# Altium schematic symbol library Resistor_0603.SchLib: 250 symbols (part 5 of 6)
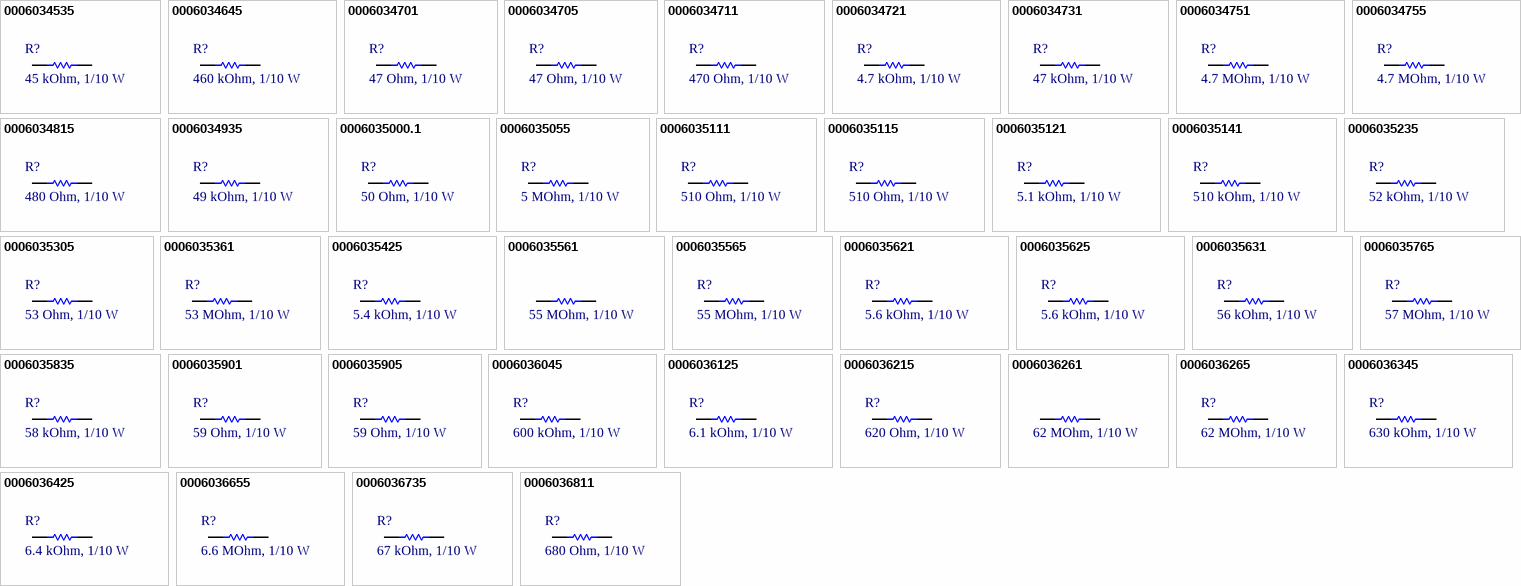
[diagram p10: symbols 0006034535 to 0006036811]

## 0006035765
designator R?, comment 57 MOhm, 1/10 W
RES, size 0603, 57 MOhm, 1/10 W, 5%; Manufacturer: OEM; Rated Power: 1/10 W; Resistance: 57 MOhm; Value: 57 MOhm; Tolerance: +/-5%; Supplier 1 URL: N/A; Supplier 3 URL: N/A; Supplier 2 URL: N/A; Packaging: Tape and Reel; Supplier 1: Mouser; Supplier 1 Part Number: N/A; Supplier 2: Digi-Key; Supplier 2 Part Number: N/A; Supplier 3: thegioiic; Supplier 3 Part Number: N/A; Manufacturer Part Number: OEM; ComponentLink1Description: Datasheet; ComponentLink1URL: N/A; Mount: SMD/SMT; Operating Temperature Max: + 85 C; Operating Temperature Min: - 40 C; Package / Case: 0603; LCSC Part #: N/A
footprint RES_0603 (Chip Resistor, 2-Leads, Body 1.55x0.85mm, IPC Medium Density)
simulation model R_Resistor_Default (Model Description)
signal-integrity model Resistor Model
pins: 1, 2

## 0006035835
designator R?, comment 58 kOhm, 1/10 W
RES, size 0603, 58 kOhm, 1/10 W, 5%; Manufacturer: OEM; Rated Power: 1/10 W; Resistance: 58 kOhm; Value: 58 kOhm; Tolerance: +/-5%; Supplier 1 URL: N/A; Supplier 3 URL: N/A; Supplier 2 URL: N/A; Packaging: Tape and Reel; Supplier 1: Mouser; Supplier 1 Part Number: N/A; Supplier 2: Digi-Key; Supplier 2 Part Number: N/A; Supplier 3: thegioiic; Supplier 3 Part Number: N/A; Manufacturer Part Number: OEM; ComponentLink1Description: Datasheet; ComponentLink1URL: N/A; Mount: SMD/SMT; Operating Temperature Max: + 85 C; Operating Temperature Min: - 40 C; Package / Case: 0603; LCSC Part #: N/A
footprint RES_0603 (Chip Resistor, 2-Leads, Body 1.55x0.85mm, IPC Medium Density)
simulation model R_Resistor_Default (Model Description)
signal-integrity model Resistor Model
pins: 1, 2

## 0006035901
designator R?, comment 59 Ohm, 1/10 W
RES, size 0603, 59 Ohm, 1/10 W, 1%; Manufacturer: OEM; Resistance: 59 Ohm; Rated Power: 1/10 W; Value: 59 Ohm; Tolerance: +/-1%; Supplier 1 URL: https://www.mouser.vn/ProductDetail/Vishay-Dale/RCS060359R0FKEA?qs=sGAEpiMZZMvdGkrng054txfS%2FhNqc3c5%2Fx%2FP%252BWnZoLzaz8jeQEqAIA%3D%3D; Supplier 3 URL: N/A; Supplier 2 URL: https://www.digikey.com/en/products/detail/vishay-dale/RCS060359R0FKEA/5868349; Packaging: Tape and Reel; Supplier 1: Mouser; Supplier 1 Part Number: 71-RCS060359R0FKEA; Supplier 2: Digi-Key; Supplier 2 Part Number: 541-10480-2-ND 541-10480-1-ND 541-10480-6-ND; Supplier 3: thegioiic; Supplier 3 Part Number: N/A; Manufacturer Part Number: OEM; ComponentLink1Description: Datasheet; ComponentLink1URL: https://www.vishay.com/docs/20065/rcse3.pdf; Mount: SMD/SMT; Operating Temperature Max: + 85 C; Operating Temperature Min: - 40 C; Package / Case: 0603; LCSC Part #: N/A
footprint RES_0603 (Chip Resistor, 2-Leads, Body 1.55x0.85mm, IPC Medium Density)
simulation model R_Resistor_Default (Model Description)
signal-integrity model Resistor Model
pins: 1, 2

## 0006035905
designator R?, comment 59 Ohm, 1/10 W
RES, size 0603, 59 Ohm, 1/10 W, 5%; Manufacturer: OEM; Rated Power: 1/10 W; Resistance: 59 Ohm; Value: 59 Ohm; Tolerance: +/-5%; Supplier 1 URL: N/A; Supplier 3 URL: N/A; Supplier 2 URL: N/A; Packaging: Tape and Reel; Supplier 1: Mouser; Supplier 1 Part Number: N/A; Supplier 2: Digi-Key; Supplier 2 Part Number: N/A; Supplier 3: thegioiic; Supplier 3 Part Number: N/A; Manufacturer Part Number: OEM; ComponentLink1Description: Datasheet; ComponentLink1URL: N/A; Mount: SMD/SMT; Operating Temperature Max: + 85 C; Operating Temperature Min: - 40 C; Package / Case: 0603; LCSC Part #: N/A
footprint RES_0603 (Chip Resistor, 2-Leads, Body 1.55x0.85mm, IPC Medium Density)
simulation model R_Resistor_Default (Model Description)
signal-integrity model Resistor Model
pins: 1, 2

## 0006036045
designator R?, comment 600 kOhm, 1/10 W
RES, size 0603, 600 kOhm, 1/10 W, 5%; Manufacturer: OEM; Rated Power: 1/10 W; Tolerance: +/-5%; Resistance: 600 kOhm; Supplier 1 URL: N/A; Supplier 3 URL: N/A; Value: 600 kOhm; Supplier 2 URL: N/A; Packaging: Tape and Reel; Supplier 1: Mouser; Supplier 1 Part Number: N/A; Supplier 2: Digi-Key; Supplier 2 Part Number: N/A; Supplier 3: thegioiic; Supplier 3 Part Number: N/A; Manufacturer Part Number: OEM; ComponentLink1Description: Datasheet; ComponentLink1URL: N/A; Mount: SMD/SMT; Operating Temperature Max: + 85 C; Operating Temperature Min: - 40 C; Package / Case: 0603; LCSC Part #: N/A
footprint RES_0603 (Chip Resistor, 2-Leads, Body 1.55x0.85mm, IPC Medium Density)
simulation model R_Resistor_Default (Model Description)
signal-integrity model Resistor Model
pins: 1, 2

## 0006036125
designator R?, comment 6.1 kOhm, 1/10 W
RES, size 0603, 6.1 kOhm, 1/10 W, 5%; Manufacturer: OEM; Rated Power: 1/10 W; Tolerance: +/-5%; Resistance: 6.1 kOhm; Supplier 1 URL: N/A; Supplier 3 URL: N/A; Value: 6.1 kOhm; Supplier 2 URL: N/A; Packaging: Tape and Reel; Supplier 1: Mouser; Supplier 1 Part Number: N/A; Supplier 2: Digi-Key; Supplier 2 Part Number: N/A; Supplier 3: thegioiic; Supplier 3 Part Number: N/A; Manufacturer Part Number: OEM; ComponentLink1Description: Datasheet; ComponentLink1URL: N/A; Mount: SMD/SMT; Operating Temperature Max: + 85 C; Operating Temperature Min: - 40 C; Package / Case: 0603; LCSC Part #: N/A
footprint RES_0603 (Chip Resistor, 2-Leads, Body 1.55x0.85mm, IPC Medium Density)
simulation model R_Resistor_Default (Model Description)
signal-integrity model Resistor Model
pins: 1, 2

## 0006036215
designator R?, comment 620 Ohm, 1/10 W
RES, size 0603, 620 Ohm, 1/10 W, 1%; Manufacturer: YAGEO; Manufacturer Part Number: RC0603FR-07620RL; Resistance: 620 Ohm; Rated Power: 1/10 W; Value: 620 Ohm; Tolerance: +/-1%; Supplier 1 URL: N/A; Supplier 3 URL: N/A; Supplier 2 URL: N/A; Packaging: Tape and Reel; Supplier 1: Mouser; Supplier 1 Part Number: N/A; Supplier 2: Digi-Key; Supplier 2 Part Number: N/A; Supplier 3: thegioiic; Supplier 3 Part Number: N/A; ComponentLink1Description: Datasheet; ComponentLink1URL: https://www.mouser.com/datasheet/2/447/YAGEO_PYu_RC_Group_51_RoHS_L_12-3313492.pdf; Mount: SMD/SMT; Operating Temperature Max: + 85 C; Operating Temperature Min: - 40 C; Package / Case: 0603; LCSC Part #: C137695
footprint RES_0603 (Chip Resistor, 2-Leads, Body 1.55x0.85mm, IPC Medium Density)
simulation model R_Resistor_Default (Model Description)
signal-integrity model Resistor Model
pins: 1, 2

## 0006036261
designator ?, comment 62 MOhm, 1/10 W
RES, size 0603, 62  MOhm, 1/10 W, 1%; Manufacturer: OEM; Rated Power: 1/10 W; Resistance: 62  MOhm; Value: 62 MOhm; Tolerance: +/-1%; Supplier 1 URL: N/A; Supplier 3 URL: N/A; Supplier 2 URL: N/A; Packaging: Tape and Reel; Supplier 1: Mouser; Supplier 1 Part Number: N/A; Supplier 2: Digi-Key; Supplier 2 Part Number: N/A; Supplier 3: thegioiic; Supplier 3 Part Number: N/A; Manufacturer Part Number: OEM; ComponentLink1Description: Datasheet; ComponentLink1URL: N/A; Mount: SMD/SMT; Operating Temperature Max: + 85 C; Operating Temperature Min: - 40 C; Package / Case: 0603; LCSC Part #: N/A
footprint RES_0603 (Chip Resistor, 2-Leads, Body 1.55x0.85mm, IPC Medium Density)
simulation model R_Resistor_Default (Model Description)
signal-integrity model Resistor Model
pins: 1, 2

## 0006036265
designator R?, comment 62 MOhm, 1/10 W
RES, size 0603, 62 MOhm, 1/10 W, 5%; Manufacturer: OEM; Rated Power: 1/10 W; Resistance: 62 MOhm; Value: 62 MOhm; Tolerance: +/-5%; Supplier 1 URL: N/A; Supplier 3 URL: N/A; Supplier 2 URL: N/A; Packaging: Tape and Reel; Supplier 1: Mouser; Supplier 1 Part Number: N/A; Supplier 2: Digi-Key; Supplier 2 Part Number: N/A; Supplier 3: thegioiic; Supplier 3 Part Number: N/A; Manufacturer Part Number: OEM; ComponentLink1Description: Datasheet; ComponentLink1URL: N/A; Mount: SMD/SMT; Operating Temperature Max: + 85 C; Operating Temperature Min: - 40 C; Package / Case: 0603; LCSC Part #: N/A
footprint RES_0603 (Chip Resistor, 2-Leads, Body 1.55x0.85mm, IPC Medium Density)
simulation model R_Resistor_Default (Model Description)
signal-integrity model Resistor Model
pins: 1, 2

## 0006036345
designator R?, comment 630 kOhm, 1/10 W
RES, size 0603, 630 kOhm, 1/10 W, 5%; Manufacturer: OEM; Rated Power: 1/10 W; Tolerance: +/-5%; Resistance: 630 kOhm; Supplier 1 URL: N/A; Supplier 3 URL: N/A; Value: 630 kOhm; Supplier 2 URL: N/A; Packaging: Tape and Reel; Supplier 1: Mouser; Supplier 1 Part Number: N/A; Supplier 2: Digi-Key; Supplier 2 Part Number: N/A; Supplier 3: thegioiic; Supplier 3 Part Number: N/A; Manufacturer Part Number: OEM; ComponentLink1Description: Datasheet; ComponentLink1URL: N/A; Mount: SMD/SMT; Operating Temperature Max: + 85 C; Operating Temperature Min: - 40 C; Package / Case: 0603; LCSC Part #: N/A
footprint RES_0603 (Chip Resistor, 2-Leads, Body 1.55x0.85mm, IPC Medium Density)
simulation model R_Resistor_Default (Model Description)
signal-integrity model Resistor Model
pins: 1, 2

## 0006036425
designator R?, comment 6.4 kOhm, 1/10 W
RES, size 0603, 6.4 kOhm, 1/10 W, 5%; Manufacturer: OEM; Rated Power: 1/10 W; Tolerance: +/-5%; Resistance: 6.4 kOhm; Supplier 1 URL: N/A; Supplier 3 URL: N/A; Value: 6.4 kOhm; Supplier 2 URL: N/A; Packaging: Tape and Reel; Supplier 1: Mouser; Supplier 1 Part Number: N/A; Supplier 2: Digi-Key; Supplier 2 Part Number: N/A; Supplier 3: thegioiic; Supplier 3 Part Number: N/A; Manufacturer Part Number: OEM; ComponentLink1Description: Datasheet; ComponentLink1URL: N/A; Mount: SMD/SMT; Operating Temperature Max: + 85 C; Operating Temperature Min: - 40 C; Package / Case: 0603; LCSC Part #: N/A
footprint RES_0603 (Chip Resistor, 2-Leads, Body 1.55x0.85mm, IPC Medium Density)
simulation model R_Resistor_Default (Model Description)
signal-integrity model Resistor Model
pins: 1, 2

## 0006036655
designator R?, comment 6.6 MOhm, 1/10 W
RES, size 0603, 6.6 MOhm, 1/10 W, 5%; Manufacturer: OEM; Rated Power: 1/10 W; Tolerance: +/-5%; Resistance: 6.6 MOhm; Supplier 1 URL: N/A; Supplier 3 URL: N/A; Value: 6.6 MOhm; Supplier 2 URL: N/A; Packaging: Tape and Reel; Supplier 1: Mouser; Supplier 1 Part Number: N/A; Supplier 2: Digi-Key; Supplier 2 Part Number: N/A; Supplier 3: thegioiic; Supplier 3 Part Number: N/A; Manufacturer Part Number: OEM; ComponentLink1Description: Datasheet; ComponentLink1URL: N/A; Mount: SMD/SMT; Operating Temperature Max: + 85 C; Operating Temperature Min: - 40 C; Package / Case: 0603; LCSC Part #: N/A
footprint RES_0603 (Chip Resistor, 2-Leads, Body 1.55x0.85mm, IPC Medium Density)
simulation model R_Resistor_Default (Model Description)
signal-integrity model Resistor Model
pins: 1, 2

## 0006036735
designator R?, comment 67 kOhm, 1/10 W
RES, size 0603, 67 kOhm, 1/10 W, 5%; Manufacturer: OEM; Rated Power: 1/10 W; Resistance: 67 kOhm; Value: 67 kOhm; Tolerance: +/-5%; Supplier 1 URL: N/A; Supplier 3 URL: N/A; Supplier 2 URL: N/A; Packaging: Tape and Reel; Supplier 1: Mouser; Supplier 1 Part Number: N/A; Supplier 2: Digi-Key; Supplier 2 Part Number: N/A; Supplier 3: thegioiic; Supplier 3 Part Number: N/A; Manufacturer Part Number: OEM; ComponentLink1Description: Datasheet; ComponentLink1URL: N/A; Mount: SMD/SMT; Operating Temperature Max: + 85 C; Operating Temperature Min: - 40 C; Package / Case: 0603; LCSC Part #: N/A
footprint RES_0603 (Chip Resistor, 2-Leads, Body 1.55x0.85mm, IPC Medium Density)
simulation model R_Resistor_Default (Model Description)
signal-integrity model Resistor Model
pins: 1, 2

## 0006036811
designator R?, comment 680 Ohm, 1/10 W
RES, size 0603, 680 Ohm, 1/10 W, 1%; Manufacturer: OEM; Resistance: 680 Ohm; Rated Power: 1/10 W; Value: 680 Ohm; Tolerance: +/-1%; Supplier 1 URL: https://www.mouser.vn/ProductDetail/ROHM-Semiconductor/ESR03EZPF6800?qs=sGAEpiMZZMvdGkrng054tywGjayRHxH2%252BpGMJaiHRuJd8MneXKUC7g%3D%3D; Supplier 3 URL: N/A; Supplier 2 URL: https://www.digikey.com/en/products/detail/rohm-semiconductor/ESR03EZPF6800/4007267; Packaging: Tape and Reel; Supplier 1: Mouser; Supplier 1 Part Number: 755-ESR03EZPF6800; Supplier 2: Digi-Key; Supplier 2 Part Number: 511-ESR03EZPF6800TR-ND 511-ESR03EZPF6800CT-ND 511-ESR03EZPF6800DKR-ND; Supplier 3: thegioiic; Supplier 3 Part Number: N/A; Manufacturer Part Number: OEM; ComponentLink1Description: Datasheet; ComponentLink1URL: https://fscdn.rohm.com/en/products/databook/datasheet/passive/resistor/chip_resistor/esr-e.pdf; Mount: SMD/SMT; Operating Temperature Max: + 85 C; Operating Temperature Min: - 40 C; Package / Case: 0603; LCSC Part #: N/A
footprint RES_0603 (Chip Resistor, 2-Leads, Body 1.55x0.85mm, IPC Medium Density)
simulation model R_Resistor_Default (Model Description)
signal-integrity model Resistor Model
pins: 1, 2

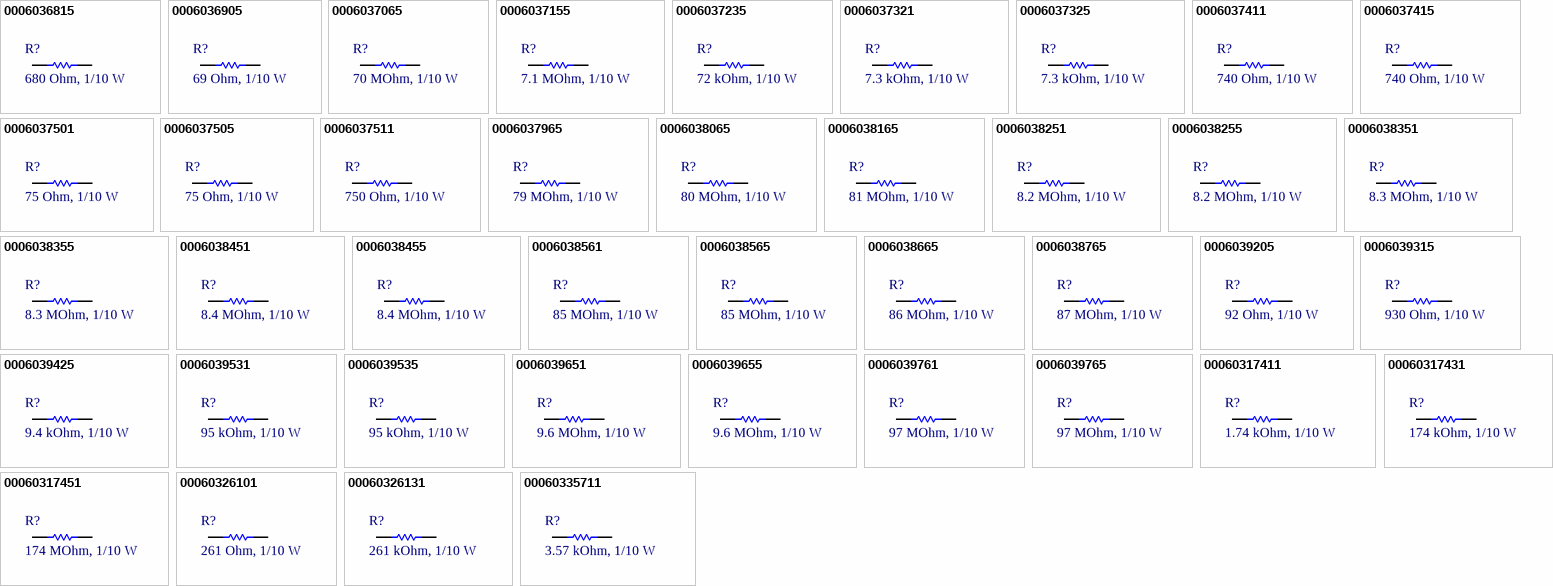
[diagram p5: symbols 0006036815 to 00060335711]

## 0006036815
designator R?, comment 680 Ohm, 1/10 W
RES, size 0603, 680 Ohm, 1/10 W, 5%; Manufacturer: Panasonic; Manufacturer Part Number: ERJ-UP3J681V; Rated Power: 1/10 W; Resistance: 680 Ohm; Value: 680 Ohm; Tolerance: +/-5%; Supplier 1 URL: https://www.mouser.vn/ProductDetail/Panasonic/ERJ-UP3J681V?qs=GedFDFLaBXHxYQ2at90EWA%3D%3D; Supplier 3 URL: https://www.thegioiic.com/dien-tro-680-ohm-0603-5; Supplier 2 URL: https://www.digikey.com/en/products/detail/panasonic-electronic-components/ERJ-UP3J681V/12092398?s=N4IgTCBcDaIGxwOwFoCiAlAUsgqgBQGZM4AOARgDUQBdAXyA; Packaging: Tape and Reel; Supplier 1: Mouser; Supplier 1 Part Number: 667-ERJ-UP3J681V; Supplier 2: Digi-Key; Supplier 2 Part Number: 10-ERJ-UP3J681VTR-ND - Tape & Reel (TR); Supplier 3: thegioiic; Supplier 3 Part Number: N/A; ComponentLink1Description: Datasheet; ComponentLink1URL: https://www.mouser.vn/datasheet/2/315/Panasonic_Resistors_Thick_Film_Anti_Sulf_Anti_Surg-1825099.pdf; Mount: SMD/SMT; Operating Temperature Max: + 85 C; Operating Temperature Min: - 40 C; Package / Case: 0603; LCSC Part #: N/A
footprint RES_0603 (Chip Resistor, 2-Leads, Body 1.55x0.85mm, IPC Medium Density)
simulation model R_Resistor_Default (Model Description)
signal-integrity model Resistor Model
pins: 1, 2

## 0006036905
designator R?, comment 69 Ohm, 1/10 W
RES, size 0603, 69 Ohm, 1/10 W, 5%; Manufacturer: OEM; Rated Power: 1/10 W; Resistance: 69 Ohm; Value: 69 Ohm; Tolerance: +/-5%; Supplier 1 URL: N/A; Supplier 3 URL: N/A; Supplier 2 URL: N/A; Packaging: Tape and Reel; Supplier 1: Mouser; Supplier 1 Part Number: N/A; Supplier 2: Digi-Key; Supplier 2 Part Number: N/A; Supplier 3: thegioiic; Supplier 3 Part Number: N/A; Manufacturer Part Number: OEM; ComponentLink1Description: Datasheet; ComponentLink1URL: N/A; Mount: SMD/SMT; Operating Temperature Max: + 85 C; Operating Temperature Min: - 40 C; Package / Case: 0603; LCSC Part #: N/A
footprint RES_0603 (Chip Resistor, 2-Leads, Body 1.55x0.85mm, IPC Medium Density)
simulation model R_Resistor_Default (Model Description)
signal-integrity model Resistor Model
pins: 1, 2

## 0006037065
designator R?, comment 70 MOhm, 1/10 W
RES, size 0603, 70 MOhm, 1/10 W, 5%; Manufacturer: OEM; Rated Power: 1/10 W; Resistance: 70 MOhm; Value: 70 MOhm; Tolerance: +/-5%; Supplier 1 URL: N/A; Supplier 3 URL: N/A; Supplier 2 URL: N/A; Packaging: Tape and Reel; Supplier 1: Mouser; Supplier 1 Part Number: N/A; Supplier 2: Digi-Key; Supplier 2 Part Number: N/A; Supplier 3: thegioiic; Supplier 3 Part Number: N/A; Manufacturer Part Number: OEM; ComponentLink1Description: Datasheet; ComponentLink1URL: N/A; Mount: SMD/SMT; Operating Temperature Max: + 85 C; Operating Temperature Min: - 40 C; Package / Case: 0603; LCSC Part #: N/A
footprint RES_0603 (Chip Resistor, 2-Leads, Body 1.55x0.85mm, IPC Medium Density)
simulation model R_Resistor_Default (Model Description)
signal-integrity model Resistor Model
pins: 1, 2

## 0006037155
designator R?, comment 7.1 MOhm, 1/10 W
RES, size 0603, 7.1 MOhm, 1/10 W, 5%; Manufacturer: OEM; Rated Power: 1/10 W; Tolerance: +/-5%; Resistance: 7.1 MOhm; Supplier 1 URL: N/A; Supplier 3 URL: N/A; Value: 7.1 MOhm; Supplier 2 URL: N/A; Packaging: Tape and Reel; Supplier 1: Mouser; Supplier 1 Part Number: N/A; Supplier 2: Digi-Key; Supplier 2 Part Number: N/A; Supplier 3: thegioiic; Supplier 3 Part Number: N/A; Manufacturer Part Number: OEM; ComponentLink1Description: Datasheet; ComponentLink1URL: N/A; Mount: SMD/SMT; Operating Temperature Max: + 85 C; Operating Temperature Min: - 40 C; Package / Case: 0603; LCSC Part #: N/A
footprint RES_0603 (Chip Resistor, 2-Leads, Body 1.55x0.85mm, IPC Medium Density)
simulation model R_Resistor_Default (Model Description)
signal-integrity model Resistor Model
pins: 1, 2

## 0006037235
designator R?, comment 72 kOhm, 1/10 W
RES, size 0603, 72 kOhm, 1/10 W, 5%; Manufacturer: OEM; Rated Power: 1/10 W; Resistance: 72 kOhm; Value: 72 kOhm; Tolerance: +/-5%; Supplier 1 URL: N/A; Supplier 3 URL: N/A; Supplier 2 URL: N/A; Packaging: Tape and Reel; Supplier 1: Mouser; Supplier 1 Part Number: N/A; Supplier 2: Digi-Key; Supplier 2 Part Number: N/A; Supplier 3: thegioiic; Supplier 3 Part Number: N/A; Manufacturer Part Number: OEM; ComponentLink1Description: Datasheet; ComponentLink1URL: N/A; Mount: SMD/SMT; Operating Temperature Max: + 85 C; Operating Temperature Min: - 40 C; Package / Case: 0603; LCSC Part #: N/A
footprint RES_0603 (Chip Resistor, 2-Leads, Body 1.55x0.85mm, IPC Medium Density)
simulation model R_Resistor_Default (Model Description)
signal-integrity model Resistor Model
pins: 1, 2

## 0006037321
designator R?, comment 7.3 kOhm, 1/10 W
RES, size 0603, 7.3  kOhm, 1/10 W, 1%; Manufacturer: OEM; Rated Power: 1/10 W; Tolerance: +/-1%; Resistance: 7.3  kOhm; Supplier 1 URL: N/A; Supplier 3 URL: N/A; Value: 7.3 kOhm; Supplier 2 URL: N/A; Packaging: Tape and Reel; Supplier 1: Mouser; Supplier 1 Part Number: N/A; Supplier 2: Digi-Key; Supplier 2 Part Number: N/A; Supplier 3: thegioiic; Supplier 3 Part Number: N/A; Manufacturer Part Number: OEM; ComponentLink1Description: Datasheet; ComponentLink1URL: N/A; Mount: SMD/SMT; Operating Temperature Max: + 85 C; Operating Temperature Min: - 40 C; Package / Case: 0603; LCSC Part #: N/A
footprint RES_0603 (Chip Resistor, 2-Leads, Body 1.55x0.85mm, IPC Medium Density)
simulation model R_Resistor_Default (Model Description)
signal-integrity model Resistor Model
pins: 1, 2

## 0006037325
designator R?, comment 7.3 kOhm, 1/10 W
RES, size 0603, 7.3 kOhm, 1/10 W, 5%; Manufacturer: OEM; Rated Power: 1/10 W; Tolerance: +/-5%; Resistance: 7.3 kOhm; Supplier 1 URL: N/A; Supplier 3 URL: N/A; Value: 7.3 kOhm; Supplier 2 URL: N/A; Packaging: Tape and Reel; Supplier 1: Mouser; Supplier 1 Part Number: N/A; Supplier 2: Digi-Key; Supplier 2 Part Number: N/A; Supplier 3: thegioiic; Supplier 3 Part Number: N/A; Manufacturer Part Number: OEM; ComponentLink1Description: Datasheet; ComponentLink1URL: N/A; Mount: SMD/SMT; Operating Temperature Max: + 85 C; Operating Temperature Min: - 40 C; Package / Case: 0603; LCSC Part #: N/A
footprint RES_0603 (Chip Resistor, 2-Leads, Body 1.55x0.85mm, IPC Medium Density)
simulation model R_Resistor_Default (Model Description)
signal-integrity model Resistor Model
pins: 1, 2

## 0006037411
designator R?, comment 740 Ohm, 1/10 W
RES, size 0603, 740 Ohm, 1/10 W, 1%; Manufacturer: OEM; Rated Power: 1/10 W; Resistance: 740 Ohm; Value: 740 Ohm; Tolerance: +/-1%; Supplier 1 URL: N/A; Supplier 3 URL: N/A; Supplier 2 URL: N/A; Packaging: Tape and Reel; Supplier 1: Mouser; Supplier 1 Part Number: N/A; Supplier 2: Digi-Key; Supplier 2 Part Number: N/A; Supplier 3: thegioiic; Supplier 3 Part Number: N/A; Manufacturer Part Number: OEM; ComponentLink1Description: Datasheet; ComponentLink1URL: N/A; Mount: SMD/SMT; Operating Temperature Max: + 85 C; Operating Temperature Min: - 40 C; Package / Case: 0603; LCSC Part #: N/A
footprint RES_0603 (Chip Resistor, 2-Leads, Body 1.55x0.85mm, IPC Medium Density)
simulation model R_Resistor_Default (Model Description)
signal-integrity model Resistor Model
pins: 1, 2

## 0006037415
designator R?, comment 740 Ohm, 1/10 W
RES, size 0603, 740 Ohm, 1/10 W, 5%; Manufacturer: OEM; Rated Power: 1/10 W; Resistance: 740 Ohm; Value: 740 Ohm; Tolerance: +/-5%; Supplier 1 URL: N/A; Supplier 3 URL: N/A; Supplier 2 URL: N/A; Packaging: Tape and Reel; Supplier 1: Mouser; Supplier 1 Part Number: N/A; Supplier 2: Digi-Key; Supplier 2 Part Number: N/A; Supplier 3: thegioiic; Supplier 3 Part Number: N/A; Manufacturer Part Number: OEM; ComponentLink1Description: Datasheet; ComponentLink1URL: N/A; Mount: SMD/SMT; Operating Temperature Max: + 85 C; Operating Temperature Min: - 40 C; Package / Case: 0603; LCSC Part #: N/A
footprint RES_0603 (Chip Resistor, 2-Leads, Body 1.55x0.85mm, IPC Medium Density)
simulation model R_Resistor_Default (Model Description)
signal-integrity model Resistor Model
pins: 1, 2

## 0006037501
designator R?, comment 75 Ohm, 1/10 W
RES, size 0603, 75 Ohm, 1/10 W, 1%; Manufacturer: OEM; Resistance: 75 Ohm; Rated Power: 1/10 W; Value: 75 Ohm; Tolerance: +/-1%; Supplier 1 URL: https://www.mouser.vn/ProductDetail/Panasonic/ERJ-UP3F75R0V?qs=sGAEpiMZZMvdGkrng054twq3eZrCFN894zorssYShYfIc9exXDJJDg%3D%3D; Supplier 3 URL: N/A; Supplier 2 URL: https://www.digikey.com/en/products/detail/panasonic-electronic-components/ERJ-UP3F75R0V/12092840; Packaging: Tape and Reel; Supplier 1: Mouser; Supplier 1 Part Number: 667-ERJ-UP3F75R0V; Supplier 2: Digi-Key; Supplier 2 Part Number: 10-ERJ-UP3F75R0VTR-ND 10-ERJ-UP3F75R0VCT-ND 10-ERJ-UP3F75R0VDKR-ND; Supplier 3: thegioiic; Supplier 3 Part Number: N/A; Manufacturer Part Number: OEM; ComponentLink1Description: Datasheet; ComponentLink1URL: https://api.pim.na.industrial.panasonic.com/file_stream/main/fileversion/4484; Mount: SMD/SMT; Operating Temperature Max: + 85 C; Operating Temperature Min: - 40 C; Package / Case: 0603; LCSC Part #: N/A
footprint RES_0603 (Chip Resistor, 2-Leads, Body 1.55x0.85mm, IPC Medium Density)
simulation model R_Resistor_Default (Model Description)
signal-integrity model Resistor Model
pins: 1, 2

## 0006037505
designator R?, comment 75 Ohm, 1/10 W
RES, size 0603, 75 Ohm, 1/10 W, 5%; Manufacturer: Panasonic; Manufacturer Part Number: ERJ-UP3J750V; Rated Power: 1/10 W; Resistance: 75 Ohm; Value: 75 Ohm; Tolerance: +/-5%; Supplier 1 URL: https://www.mouser.vn/ProductDetail/Panasonic/ERJ-UP3J750V?qs=GedFDFLaBXEUNC90rvoH6Q%3D%3D; Supplier 3 URL: https://www.thegioiic.com/dien-tro-75-ohm-0603-5-; Supplier 2 URL: https://www.digikey.com/en/products/detail/panasonic-electronic-components/ERJ-UP3J750V/12093112?s=N4IgTCBcDaIGxwOwFoCiAlAUsgqgBQGZNEBWABgDUQBdAXyA; Packaging: Tape and Reel; Supplier 1: Mouser; Supplier 1 Part Number: 667-ERJ-UP3J750V; Supplier 2: Digi-Key; Supplier 2 Part Number: 10-ERJ-UP3J750VTR-ND - Tape & Reel (TR); Supplier 3: thegioiic; Supplier 3 Part Number: N/A; ComponentLink1Description: Datasheet; ComponentLink1URL: https://www.mouser.vn/datasheet/2/315/Panasonic_Resistors_Thick_Film_Anti_Sulf_Anti_Surg-1825099.pdf; Mount: SMD/SMT; Operating Temperature Max: + 85 C; Operating Temperature Min: - 40 C; Package / Case: 0603; LCSC Part #: N/A
footprint RES_0603 (Chip Resistor, 2-Leads, Body 1.55x0.85mm, IPC Medium Density)
simulation model R_Resistor_Default (Model Description)
signal-integrity model Resistor Model
pins: 1, 2

## 0006037511
designator R?, comment 750 Ohm, 1/10 W
RES, size 0603, 750 Ohm, 1/10 W, 1%; Manufacturer: YAGEO; Manufacturer Part Number: RC0603FR-07750RL; Resistance: 12 Ohm; Rated Power: 1/10 W; Value: 750 Ohm; Tolerance: +/-1%; Supplier 1 URL: https://www.mouser.vn/ProductDetail/YAGEO/RC0603FR-07750RL?qs=FHALIGSka6kXmIWmb0xdTA%3D%3D&srsltid=AfmBOorhm5a4HrIOR86_1go9F0OEwJ-gEAUO_dDbgwG1lB9UThh4d6yz; Supplier 3 URL: N/A; Supplier 2 URL: https://www.digikey.com/en/products/detail/yageo/RC0603FR-07750RL/727379; Packaging: Tape and Reel; Supplier 1: Mouser; Supplier 1 Part Number: 603-RC0603FR-07750RL; Supplier 2: Digi-Key; Supplier 2 Part Number: 311-750HRTR-ND; Supplier 3: thegioiic; Supplier 3 Part Number: N/A; ComponentLink1Description: Datasheet; ComponentLink1URL: https://www.lcsc.com/datasheet/lcsc_datasheet_2304140030_YAGEO-RC0603FR-07750RL_C114635.pdf; Mount: SMD/SMT; Operating Temperature Max: + 85 C; Operating Temperature Min: - 40 C; Package / Case: 0603; LCSC Part #: C114635
footprint RES_0603 (Chip Resistor, 2-Leads, Body 1.55x0.85mm, IPC Medium Density)
simulation model R_Resistor_Default (Model Description)
signal-integrity model Resistor Model
pins: 1, 2

## 0006037965
designator R?, comment 79 MOhm, 1/10 W
RES, size 0603, 79 MOhm, 1/10 W, 5%; Manufacturer: OEM; Rated Power: 1/10 W; Resistance: 79 MOhm; Value: 79 MOhm; Tolerance: +/-5%; Supplier 1 URL: N/A; Supplier 3 URL: N/A; Supplier 2 URL: N/A; Packaging: Tape and Reel; Supplier 1: Mouser; Supplier 1 Part Number: N/A; Supplier 2: Digi-Key; Supplier 2 Part Number: N/A; Supplier 3: thegioiic; Supplier 3 Part Number: N/A; Manufacturer Part Number: OEM; ComponentLink1Description: Datasheet; ComponentLink1URL: N/A; Mount: SMD/SMT; Operating Temperature Max: + 85 C; Operating Temperature Min: - 40 C; Package / Case: 0603; LCSC Part #: N/A
footprint RES_0603 (Chip Resistor, 2-Leads, Body 1.55x0.85mm, IPC Medium Density)
simulation model R_Resistor_Default (Model Description)
signal-integrity model Resistor Model
pins: 1, 2

## 0006038065
designator R?, comment 80 MOhm, 1/10 W
RES, size 0603, 80 MOhm, 1/10 W, 5%; Manufacturer: OEM; Rated Power: 1/10 W; Resistance: 80 MOhm; Value: 80 MOhm; Tolerance: +/-5%; Supplier 1 URL: N/A; Supplier 3 URL: N/A; Supplier 2 URL: N/A; Packaging: Tape and Reel; Supplier 1: Mouser; Supplier 1 Part Number: N/A; Supplier 2: Digi-Key; Supplier 2 Part Number: N/A; Supplier 3: thegioiic; Supplier 3 Part Number: N/A; Manufacturer Part Number: OEM; ComponentLink1Description: Datasheet; ComponentLink1URL: N/A; Mount: SMD/SMT; Operating Temperature Max: + 85 C; Operating Temperature Min: - 40 C; Package / Case: 0603; LCSC Part #: N/A
footprint RES_0603 (Chip Resistor, 2-Leads, Body 1.55x0.85mm, IPC Medium Density)
simulation model R_Resistor_Default (Model Description)
signal-integrity model Resistor Model
pins: 1, 2

## 0006038165
designator R?, comment 81 MOhm, 1/10 W
RES, size 0603, 81 MOhm, 1/10 W, 5%; Manufacturer: OEM; Rated Power: 1/10 W; Resistance: 81 MOhm; Value: 81 MOhm; Tolerance: +/-5%; Supplier 1 URL: N/A; Supplier 3 URL: N/A; Supplier 2 URL: N/A; Packaging: Tape and Reel; Supplier 1: Mouser; Supplier 1 Part Number: N/A; Supplier 2: Digi-Key; Supplier 2 Part Number: N/A; Supplier 3: thegioiic; Supplier 3 Part Number: N/A; Manufacturer Part Number: OEM; ComponentLink1Description: Datasheet; ComponentLink1URL: N/A; Mount: SMD/SMT; Operating Temperature Max: + 85 C; Operating Temperature Min: - 40 C; Package / Case: 0603; LCSC Part #: N/A
footprint RES_0603 (Chip Resistor, 2-Leads, Body 1.55x0.85mm, IPC Medium Density)
simulation model R_Resistor_Default (Model Description)
signal-integrity model Resistor Model
pins: 1, 2

## 0006038251
designator R?, comment 8.2 MOhm, 1/10 W
RES, size 0603, 8.2  MOhm, 1/10 W, 1%; Manufacturer: OEM; Rated Power: 1/10 W; Tolerance: +/-1%; Resistance: 8.2  MOhm; Supplier 1 URL: https://www.mouser.vn/ProductDetail/KOA-Speer/HV731JTTD8204F?qs=ZqVPfSd1khqN0teaqWW7DA%3D%3D; Supplier 3 URL: N/A; Value: 8.2 MOhm; Supplier 2 URL: https://www.digikey.com/en/products/detail/yageo/RC0603FR-078M2L/5918418; Packaging: Tape and Reel; Supplier 1: Mouser; Supplier 1 Part Number: 660-HV731JTTD8204F; Supplier 2: Digi-Key; Supplier 2 Part Number: 13-RC0603FR-078M2LTR-ND; Supplier 3: thegioiic; Supplier 3 Part Number: N/A; Manufacturer Part Number: OEM; ComponentLink1Description: Datasheet; ComponentLink1URL: N/A; Mount: SMD/SMT; Operating Temperature Max: + 85 C; Operating Temperature Min: - 40 C; Package / Case: 0603; LCSC Part #: N/A
footprint RES_0603 (Chip Resistor, 2-Leads, Body 1.55x0.85mm, IPC Medium Density)
simulation model R_Resistor_Default (Model Description)
signal-integrity model Resistor Model
pins: 1, 2

## 0006038255
designator R?, comment 8.2 MOhm, 1/10 W
RES, size 0603, 8.2 MOhm, 1/10 W, 5%; Manufacturer: ROHM Semiconductor; Manufacturer Part Number: ESR03EZPJ825; Rated Power: 1/10 W; Tolerance: +/-5%; Resistance: 8.2 MOhm; Supplier 1 URL: https://www.mouser.vn/ProductDetail/ROHM-Semiconductor/ESR03EZPJ825?qs=493kPxzlxfIkNxBzvs2Ymg%3D%3D; Supplier 3 URL: N/A; Value: 8.2 MOhm; Supplier 2 URL: https://www.digikey.com/en/products/detail/rohm-semiconductor/ESR03EZPJ825/4051298?s=N4IgTCBcDaIOwFYEFoCiBlASgBgMyoC0AFAKQA4wEQBdAXyA; Packaging: Tape and Reel; Supplier 1: Mouser; Supplier 1 Part Number: 755-ESR03EZPJ825; Supplier 2: Digi-Key; Supplier 2 Part Number: RHM8.2MDTR-ND - Tape & Reel (TR); Supplier 3: thegioiic; Supplier 3 Part Number: N/A; ComponentLink1Description: Datasheet; ComponentLink1URL: https://www.mouser.vn/datasheet/2/348/ROHM_S_A0011075102_1-2563252.pdf; Mount: SMD/SMT; Operating Temperature Max: + 85 C; Operating Temperature Min: - 40 C; Package / Case: 0603; LCSC Part #: N/A
footprint RES_0603 (Chip Resistor, 2-Leads, Body 1.55x0.85mm, IPC Medium Density)
simulation model R_Resistor_Default (Model Description)
signal-integrity model Resistor Model
pins: 1, 2

## 0006038351
designator R?, comment 8.3 MOhm, 1/10 W
RES, size 0603, 8.3  MOhm, 1/10 W, 1%; Manufacturer: OEM; Rated Power: 1/10 W; Tolerance: +/-1%; Resistance: 8.3  MOhm; Supplier 1 URL: N/A; Supplier 3 URL: N/A; Value: 8.3 MOhm; Supplier 2 URL: N/A; Packaging: Tape and Reel; Supplier 1: Mouser; Supplier 1 Part Number: N/A; Supplier 2: Digi-Key; Supplier 2 Part Number: N/A; Supplier 3: thegioiic; Supplier 3 Part Number: N/A; Manufacturer Part Number: OEM; ComponentLink1Description: Datasheet; ComponentLink1URL: N/A; Mount: SMD/SMT; Operating Temperature Max: + 85 C; Operating Temperature Min: - 40 C; Package / Case: 0603; LCSC Part #: N/A
footprint RES_0603 (Chip Resistor, 2-Leads, Body 1.55x0.85mm, IPC Medium Density)
simulation model R_Resistor_Default (Model Description)
signal-integrity model Resistor Model
pins: 1, 2

## 0006038355
designator R?, comment 8.3 MOhm, 1/10 W
RES, size 0603, 8.3 MOhm, 1/10 W, 5%; Manufacturer: OEM; Rated Power: 1/10 W; Tolerance: +/-5%; Resistance: 8.3 MOhm; Supplier 1 URL: N/A; Supplier 3 URL: N/A; Value: 8.3 MOhm; Supplier 2 URL: N/A; Packaging: Tape and Reel; Supplier 1: Mouser; Supplier 1 Part Number: N/A; Supplier 2: Digi-Key; Supplier 2 Part Number: N/A; Supplier 3: thegioiic; Supplier 3 Part Number: N/A; Manufacturer Part Number: OEM; ComponentLink1Description: Datasheet; ComponentLink1URL: N/A; Mount: SMD/SMT; Operating Temperature Max: + 85 C; Operating Temperature Min: - 40 C; Package / Case: 0603; LCSC Part #: N/A
footprint RES_0603 (Chip Resistor, 2-Leads, Body 1.55x0.85mm, IPC Medium Density)
simulation model R_Resistor_Default (Model Description)
signal-integrity model Resistor Model
pins: 1, 2

## 0006038451
designator R?, comment 8.4 MOhm, 1/10 W
RES, size 0603, 8.4  MOhm, 1/10 W, 1%; Manufacturer: OEM; Rated Power: 1/10 W; Tolerance: +/-1%; Resistance: 8.4  MOhm; Supplier 1 URL: N/A; Supplier 3 URL: N/A; Value: 8.4 MOhm; Supplier 2 URL: N/A; Packaging: Tape and Reel; Supplier 1: Mouser; Supplier 1 Part Number: N/A; Supplier 2: Digi-Key; Supplier 2 Part Number: N/A; Supplier 3: thegioiic; Supplier 3 Part Number: N/A; Manufacturer Part Number: OEM; ComponentLink1Description: Datasheet; ComponentLink1URL: N/A; Mount: SMD/SMT; Operating Temperature Max: + 85 C; Operating Temperature Min: - 40 C; Package / Case: 0603; LCSC Part #: N/A
footprint RES_0603 (Chip Resistor, 2-Leads, Body 1.55x0.85mm, IPC Medium Density)
simulation model R_Resistor_Default (Model Description)
signal-integrity model Resistor Model
pins: 1, 2

## 0006038455
designator R?, comment 8.4 MOhm, 1/10 W
RES, size 0603, 8.4 MOhm, 1/10 W, 5%; Manufacturer: OEM; Rated Power: 1/10 W; Tolerance: +/-5%; Resistance: 8.4 MOhm; Supplier 1 URL: N/A; Supplier 3 URL: N/A; Value: 8.4 MOhm; Supplier 2 URL: N/A; Packaging: Tape and Reel; Supplier 1: Mouser; Supplier 1 Part Number: N/A; Supplier 2: Digi-Key; Supplier 2 Part Number: N/A; Supplier 3: thegioiic; Supplier 3 Part Number: N/A; Manufacturer Part Number: OEM; ComponentLink1Description: Datasheet; ComponentLink1URL: N/A; Mount: SMD/SMT; Operating Temperature Max: + 85 C; Operating Temperature Min: - 40 C; Package / Case: 0603; LCSC Part #: N/A
footprint RES_0603 (Chip Resistor, 2-Leads, Body 1.55x0.85mm, IPC Medium Density)
simulation model R_Resistor_Default (Model Description)
signal-integrity model Resistor Model
pins: 1, 2

## 0006038561
designator R?, comment 85 MOhm, 1/10 W
RES, size 0603, 85  MOhm, 1/10 W, 1%; Manufacturer: OEM; Rated Power: 1/10 W; Resistance: 85  MOhm; Value: 85 MOhm; Tolerance: +/-1%; Supplier 1 URL: N/A; Supplier 3 URL: N/A; Supplier 2 URL: N/A; Packaging: Tape and Reel; Supplier 1: Mouser; Supplier 1 Part Number: N/A; Supplier 2: Digi-Key; Supplier 2 Part Number: N/A; Supplier 3: thegioiic; Supplier 3 Part Number: N/A; Manufacturer Part Number: OEM; ComponentLink1Description: Datasheet; ComponentLink1URL: N/A; Mount: SMD/SMT; Operating Temperature Max: + 85 C; Operating Temperature Min: - 40 C; Package / Case: 0603; LCSC Part #: N/A
footprint RES_0603 (Chip Resistor, 2-Leads, Body 1.55x0.85mm, IPC Medium Density)
simulation model R_Resistor_Default (Model Description)
signal-integrity model Resistor Model
pins: 1, 2

## 0006038565
designator R?, comment 85 MOhm, 1/10 W
RES, size 0603, 85 MOhm, 1/10 W, 5%; Manufacturer: OEM; Rated Power: 1/10 W; Resistance: 85 MOhm; Value: 85 MOhm; Tolerance: +/-5%; Supplier 1 URL: N/A; Supplier 3 URL: N/A; Supplier 2 URL: N/A; Packaging: Tape and Reel; Supplier 1: Mouser; Supplier 1 Part Number: N/A; Supplier 2: Digi-Key; Supplier 2 Part Number: N/A; Supplier 3: thegioiic; Supplier 3 Part Number: N/A; Manufacturer Part Number: OEM; ComponentLink1Description: Datasheet; ComponentLink1URL: N/A; Mount: SMD/SMT; Operating Temperature Max: + 85 C; Operating Temperature Min: - 40 C; Package / Case: 0603; LCSC Part #: N/A
footprint RES_0603 (Chip Resistor, 2-Leads, Body 1.55x0.85mm, IPC Medium Density)
simulation model R_Resistor_Default (Model Description)
signal-integrity model Resistor Model
pins: 1, 2

## 0006038665
designator R?, comment 86 MOhm, 1/10 W
RES, size 0603, 86 MOhm, 1/10 W, 5%; Manufacturer: OEM; Rated Power: 1/10 W; Resistance: 86 MOhm; Value: 86 MOhm; Tolerance: +/-5%; Supplier 1 URL: N/A; Supplier 3 URL: N/A; Supplier 2 URL: N/A; Packaging: Tape and Reel; Supplier 1: Mouser; Supplier 1 Part Number: N/A; Supplier 2: Digi-Key; Supplier 2 Part Number: N/A; Supplier 3: thegioiic; Supplier 3 Part Number: N/A; Manufacturer Part Number: OEM; ComponentLink1Description: Datasheet; ComponentLink1URL: N/A; Mount: SMD/SMT; Operating Temperature Max: + 85 C; Operating Temperature Min: - 40 C; Package / Case: 0603; LCSC Part #: N/A
footprint RES_0603 (Chip Resistor, 2-Leads, Body 1.55x0.85mm, IPC Medium Density)
simulation model R_Resistor_Default (Model Description)
signal-integrity model Resistor Model
pins: 1, 2

## 0006038765
designator R?, comment 87 MOhm, 1/10 W
RES, size 0603, 87 MOhm, 1/10 W, 5%; Manufacturer: OEM; Rated Power: 1/10 W; Resistance: 87 MOhm; Value: 87 MOhm; Tolerance: +/-5%; Supplier 1 URL: N/A; Supplier 3 URL: N/A; Supplier 2 URL: N/A; Packaging: Tape and Reel; Supplier 1: Mouser; Supplier 1 Part Number: N/A; Supplier 2: Digi-Key; Supplier 2 Part Number: N/A; Supplier 3: thegioiic; Supplier 3 Part Number: N/A; Manufacturer Part Number: OEM; ComponentLink1Description: Datasheet; ComponentLink1URL: N/A; Mount: SMD/SMT; Operating Temperature Max: + 85 C; Operating Temperature Min: - 40 C; Package / Case: 0603; LCSC Part #: N/A
footprint RES_0603 (Chip Resistor, 2-Leads, Body 1.55x0.85mm, IPC Medium Density)
simulation model R_Resistor_Default (Model Description)
signal-integrity model Resistor Model
pins: 1, 2

## 0006039205
designator R?, comment 92 Ohm, 1/10 W
RES, size 0603, 92 Ohm, 1/10 W, 5%; Manufacturer: OEM; Rated Power: 1/10 W; Resistance: 92 Ohm; Value: 92 Ohm; Tolerance: +/-5%; Supplier 1 URL: N/A; Supplier 3 URL: N/A; Supplier 2 URL: N/A; Packaging: Tape and Reel; Supplier 1: Mouser; Supplier 1 Part Number: N/A; Supplier 2: Digi-Key; Supplier 2 Part Number: N/A; Supplier 3: thegioiic; Supplier 3 Part Number: N/A; Manufacturer Part Number: OEM; ComponentLink1Description: Datasheet; ComponentLink1URL: N/A; Mount: SMD/SMT; Operating Temperature Max: + 85 C; Operating Temperature Min: - 40 C; Package / Case: 0603; LCSC Part #: N/A
footprint RES_0603 (Chip Resistor, 2-Leads, Body 1.55x0.85mm, IPC Medium Density)
simulation model R_Resistor_Default (Model Description)
signal-integrity model Resistor Model
pins: 1, 2

## 0006039315
designator R?, comment 930 Ohm, 1/10 W
RES, size 0603, 930 Ohm, 1/10 W, 5%; Manufacturer: OEM; Rated Power: 1/10 W; Resistance: 930 Ohm; Value: 930 Ohm; Tolerance: +/-5%; Supplier 1 URL: N/A; Supplier 3 URL: N/A; Supplier 2 URL: N/A; Packaging: Tape and Reel; Supplier 1: Mouser; Supplier 1 Part Number: N/A; Supplier 2: Digi-Key; Supplier 2 Part Number: N/A; Supplier 3: thegioiic; Supplier 3 Part Number: N/A; Manufacturer Part Number: OEM; ComponentLink1Description: Datasheet; ComponentLink1URL: N/A; Mount: SMD/SMT; Operating Temperature Max: + 85 C; Operating Temperature Min: - 40 C; Package / Case: 0603; LCSC Part #: N/A
footprint RES_0603 (Chip Resistor, 2-Leads, Body 1.55x0.85mm, IPC Medium Density)
simulation model R_Resistor_Default (Model Description)
signal-integrity model Resistor Model
pins: 1, 2

## 0006039425
designator R?, comment 9.4 kOhm, 1/10 W
RES, size 0603, 9.4 kOhm, 1/10 W, 5%; Manufacturer: OEM; Rated Power: 1/10 W; Tolerance: +/-5%; Resistance: 9.4 kOhm; Supplier 1 URL: N/A; Supplier 3 URL: N/A; Value: 9.4 kOhm; Supplier 2 URL: N/A; Packaging: Tape and Reel; Supplier 1: Mouser; Supplier 1 Part Number: N/A; Supplier 2: Digi-Key; Supplier 2 Part Number: N/A; Supplier 3: thegioiic; Supplier 3 Part Number: N/A; Manufacturer Part Number: OEM; ComponentLink1Description: Datasheet; ComponentLink1URL: N/A; Mount: SMD/SMT; Operating Temperature Max: + 85 C; Operating Temperature Min: - 40 C; Package / Case: 0603; LCSC Part #: N/A
footprint RES_0603 (Chip Resistor, 2-Leads, Body 1.55x0.85mm, IPC Medium Density)
simulation model R_Resistor_Default (Model Description)
signal-integrity model Resistor Model
pins: 1, 2

## 0006039531
designator R?, comment 95 kOhm, 1/10 W
RES, size 0603, 95  kOhm, 1/10 W, 1%; Manufacturer: OEM; Rated Power: 1/10 W; Resistance: 95  kOhm; Value: 95 kOhm; Tolerance: +/-1%; Supplier 1 URL: N/A; Supplier 3 URL: N/A; Supplier 2 URL: N/A; Packaging: Tape and Reel; Supplier 1: Mouser; Supplier 1 Part Number: N/A; Supplier 2: Digi-Key; Supplier 2 Part Number: N/A; Supplier 3: thegioiic; Supplier 3 Part Number: N/A; Manufacturer Part Number: OEM; ComponentLink1Description: Datasheet; ComponentLink1URL: N/A; Mount: SMD/SMT; Operating Temperature Max: + 85 C; Operating Temperature Min: - 40 C; Package / Case: 0603; LCSC Part #: N/A
footprint RES_0603 (Chip Resistor, 2-Leads, Body 1.55x0.85mm, IPC Medium Density)
simulation model R_Resistor_Default (Model Description)
signal-integrity model Resistor Model
pins: 1, 2

## 0006039535
designator R?, comment 95 kOhm, 1/10 W
RES, size 0603, 95 kOhm, 1/10 W, 5%; Manufacturer: OEM; Rated Power: 1/10 W; Resistance: 95 kOhm; Value: 95 kOhm; Tolerance: +/-5%; Supplier 1 URL: N/A; Supplier 3 URL: N/A; Supplier 2 URL: N/A; Packaging: Tape and Reel; Supplier 1: Mouser; Supplier 1 Part Number: N/A; Supplier 2: Digi-Key; Supplier 2 Part Number: N/A; Supplier 3: thegioiic; Supplier 3 Part Number: N/A; Manufacturer Part Number: OEM; ComponentLink1Description: Datasheet; ComponentLink1URL: N/A; Mount: SMD/SMT; Operating Temperature Max: + 85 C; Operating Temperature Min: - 40 C; Package / Case: 0603; LCSC Part #: N/A
footprint RES_0603 (Chip Resistor, 2-Leads, Body 1.55x0.85mm, IPC Medium Density)
simulation model R_Resistor_Default (Model Description)
signal-integrity model Resistor Model
pins: 1, 2

## 0006039651
designator R?, comment 9.6 MOhm, 1/10 W
RES, size 0603, 9.6  MOhm, 1/10 W, 1%; Manufacturer: OEM; Rated Power: 1/10 W; Tolerance: +/-1%; Resistance: 9.6  MOhm; Supplier 1 URL: N/A; Supplier 3 URL: N/A; Value: 9.6 MOhm; Supplier 2 URL: N/A; Packaging: Tape and Reel; Supplier 1: Mouser; Supplier 1 Part Number: N/A; Supplier 2: Digi-Key; Supplier 2 Part Number: N/A; Supplier 3: thegioiic; Supplier 3 Part Number: N/A; Manufacturer Part Number: OEM; ComponentLink1Description: Datasheet; ComponentLink1URL: N/A; Mount: SMD/SMT; Operating Temperature Max: + 85 C; Operating Temperature Min: - 40 C; Package / Case: 0603; LCSC Part #: N/A
footprint RES_0603 (Chip Resistor, 2-Leads, Body 1.55x0.85mm, IPC Medium Density)
simulation model R_Resistor_Default (Model Description)
signal-integrity model Resistor Model
pins: 1, 2

## 0006039655
designator R?, comment 9.6 MOhm, 1/10 W
RES, size 0603, 9.6 MOhm, 1/10 W, 5%; Manufacturer: OEM; Rated Power: 1/10 W; Tolerance: +/-5%; Resistance: 9.6 MOhm; Supplier 1 URL: N/A; Supplier 3 URL: N/A; Value: 9.6 MOhm; Supplier 2 URL: N/A; Packaging: Tape and Reel; Supplier 1: Mouser; Supplier 1 Part Number: N/A; Supplier 2: Digi-Key; Supplier 2 Part Number: N/A; Supplier 3: thegioiic; Supplier 3 Part Number: N/A; Manufacturer Part Number: OEM; ComponentLink1Description: Datasheet; ComponentLink1URL: N/A; Mount: SMD/SMT; Operating Temperature Max: + 85 C; Operating Temperature Min: - 40 C; Package / Case: 0603; LCSC Part #: N/A
footprint RES_0603 (Chip Resistor, 2-Leads, Body 1.55x0.85mm, IPC Medium Density)
simulation model R_Resistor_Default (Model Description)
signal-integrity model Resistor Model
pins: 1, 2

## 0006039761
designator R?, comment 97 MOhm, 1/10 W
RES, size 0603, 97  MOhm, 1/10 W, 1%; Manufacturer: OEM; Rated Power: 1/10 W; Resistance: 97  MOhm; Value: 97 MOhm; Tolerance: +/-1%; Supplier 1 URL: N/A; Supplier 3 URL: N/A; Supplier 2 URL: N/A; Packaging: Tape and Reel; Supplier 1: Mouser; Supplier 1 Part Number: N/A; Supplier 2: Digi-Key; Supplier 2 Part Number: N/A; Supplier 3: thegioiic; Supplier 3 Part Number: N/A; Manufacturer Part Number: OEM; ComponentLink1Description: Datasheet; ComponentLink1URL: N/A; Mount: SMD/SMT; Operating Temperature Max: + 85 C; Operating Temperature Min: - 40 C; Package / Case: 0603; LCSC Part #: N/A
footprint RES_0603 (Chip Resistor, 2-Leads, Body 1.55x0.85mm, IPC Medium Density)
simulation model R_Resistor_Default (Model Description)
signal-integrity model Resistor Model
pins: 1, 2

## 0006039765
designator R?, comment 97 MOhm, 1/10 W
RES, size 0603, 97 MOhm, 1/10 W, 5%; Manufacturer: OEM; Rated Power: 1/10 W; Resistance: 97 MOhm; Value: 97 MOhm; Tolerance: +/-5%; Supplier 1 URL: N/A; Supplier 3 URL: N/A; Supplier 2 URL: N/A; Packaging: Tape and Reel; Supplier 1: Mouser; Supplier 1 Part Number: N/A; Supplier 2: Digi-Key; Supplier 2 Part Number: N/A; Supplier 3: thegioiic; Supplier 3 Part Number: N/A; Manufacturer Part Number: OEM; ComponentLink1Description: Datasheet; ComponentLink1URL: N/A; Mount: SMD/SMT; Operating Temperature Max: + 85 C; Operating Temperature Min: - 40 C; Package / Case: 0603; LCSC Part #: N/A
footprint RES_0603 (Chip Resistor, 2-Leads, Body 1.55x0.85mm, IPC Medium Density)
simulation model R_Resistor_Default (Model Description)
signal-integrity model Resistor Model
pins: 1, 2

## 00060317411
designator R?, comment 1.74 kOhm, 1/10 W
RES, size 0603, 1.74  kOhm, 1/10 W, 1%; Manufacturer: OEM; Rated Power: 1/10 W; Tolerance: +/-1%; Resistance: 1.74  kOhm; Supplier 1 URL: https://www.mouser.vn/ProductDetail/Bourns/CR0603-FX-1741ELF?qs=zx2075yZkZJRxafDX05PxQ%3D%3D; Supplier 3 URL: N/A; Value: 1.74 kOhm; Supplier 2 URL: https://www.digikey.com/en/products/detail/yageo/RC0603FR-071K74L/726872; Packaging: Tape and Reel; Supplier 1: Mouser; Supplier 1 Part Number: 652-CR0603FX-1741ELF; Supplier 2: Digi-Key; Supplier 2 Part Number: 311-1.74KHRTR-ND; Supplier 3: thegioiic; Supplier 3 Part Number: N/A; Manufacturer Part Number: OEM; ComponentLink1Description: Datasheet; ComponentLink1URL: N/A; Mount: SMD/SMT; Operating Temperature Max: + 85 C; Operating Temperature Min: - 40 C; Package / Case: 0603; LCSC Part #: N/A
footprint RES_0603 (Chip Resistor, 2-Leads, Body 1.55x0.85mm, IPC Medium Density)
simulation model R_Resistor_Default (Model Description)
signal-integrity model Resistor Model
pins: 1, 2

## 00060317431
designator R?, comment 174 kOhm, 1/10 W
RES, size 0603, 174  kOhm, 1/10 W, 1%; Manufacturer: OEM; Rated Power: 1/10 W; Tolerance: +/-1%; Resistance: 174  kOhm; Supplier 1 URL: https://www.mouser.vn/ProductDetail/Bourns/CR0603-FX-1743ELF?qs=zx2075yZkZJGZPfH16YNVA%3D%3D; Supplier 3 URL: N/A; Value: 174 kOhm; Supplier 2 URL: https://www.digikey.com/en/products/detail/yageo/RC0603FR-07174KL/726985; Packaging: Tape and Reel; Supplier 1: Mouser; Supplier 1 Part Number: 652-CR0603FX-1743ELF; Supplier 2: Digi-Key; Supplier 2 Part Number: 311-174KHRTR-ND; Supplier 3: thegioiic; Supplier 3 Part Number: N/A; Manufacturer Part Number: OEM; ComponentLink1Description: Datasheet; ComponentLink1URL: N/A; Mount: SMD/SMT; Operating Temperature Max: + 85 C; Operating Temperature Min: - 40 C; Package / Case: 0603; LCSC Part #: N/A
footprint RES_0603 (Chip Resistor, 2-Leads, Body 1.55x0.85mm, IPC Medium Density)
simulation model R_Resistor_Default (Model Description)
signal-integrity model Resistor Model
pins: 1, 2

## 00060317451
designator R?, comment 174 MOhm, 1/10 W
RES, size 0603, 174  MOhm, 1/10 W, 1%; Manufacturer: OEM; Rated Power: 1/10 W; Tolerance: +/-1%; Resistance: 174  MOhm; Supplier 1 URL: https://www.mouser.vn/ProductDetail/Royalohm/0603WAF1745T5E?qs=e8oIoAS2J1TZruGg9o9nsw%3D%3D; Supplier 3 URL: N/A; Value: 174 MOhm; Supplier 2 URL: N/A; Packaging: Tape and Reel; Supplier 1: Mouser; Supplier 1 Part Number: 303-0603WAF1745T5E; Supplier 2: Digi-Key; Supplier 2 Part Number: N/A; Supplier 3: thegioiic; Supplier 3 Part Number: N/A; Manufacturer Part Number: OEM; ComponentLink1Description: Datasheet; ComponentLink1URL: N/A; Mount: SMD/SMT; Operating Temperature Max: + 85 C; Operating Temperature Min: - 40 C; Package / Case: 0603; LCSC Part #: N/A
footprint RES_0603 (Chip Resistor, 2-Leads, Body 1.55x0.85mm, IPC Medium Density)
simulation model R_Resistor_Default (Model Description)
signal-integrity model Resistor Model
pins: 1, 2

## 00060326101
designator R?, comment 261 Ohm, 1/10 W
RES, size 0603, 261 Ohm, 1/10 W, 1%; Manufacturer: OEM; Rated Power: 1/10 W; Resistance: 261 Ohm; Value: 261 Ohm; Tolerance: +/-1%; Supplier 1 URL: https://www.mouser.vn/ProductDetail/Bourns/CR0603-FX-2610ELF?qs=I4suiNu8FYAPozqcSssc3g%3D%3D; Supplier 3 URL: N/A; Supplier 2 URL: https://www.digikey.com/en/products/detail/yageo/RC0603FR-07261RL/727095; Packaging: Tape and Reel; Supplier 1: Mouser; Supplier 1 Part Number: 652-CR0603FX-2610ELF; Supplier 2: Digi-Key; Supplier 2 Part Number: 311-261HRTR-ND; Supplier 3: thegioiic; Supplier 3 Part Number: N/A; Manufacturer Part Number: OEM; ComponentLink1Description: Datasheet; ComponentLink1URL: N/A; Mount: SMD/SMT; Operating Temperature Max: + 85 C; Operating Temperature Min: - 40 C; Package / Case: 0603; LCSC Part #: N/A
footprint RES_0603 (Chip Resistor, 2-Leads, Body 1.55x0.85mm, IPC Medium Density)
simulation model R_Resistor_Default (Model Description)
signal-integrity model Resistor Model
pins: 1, 2

## 00060326131
designator R?, comment 261 kOhm, 1/10 W
RES, size 0603, 261  kOhm, 1/10 W, 1%; Manufacturer: OEM; Rated Power: 1/10 W; Tolerance: +/-1%; Resistance: 261  kOhm; Supplier 1 URL: https://www.mouser.vn/ProductDetail/Vishay-Dale/CRCW0603261KFKEA?qs=ZY%2FA15UmqnC8j%252BzPQatghA%3D%3D; Supplier 3 URL: N/A; Value: 261 kOhm; Supplier 2 URL: https://www.digikey.com/en/products/detail/yageo/RC0603FR-07261KL/727096; Packaging: Tape and Reel; Supplier 1: Mouser; Supplier 1 Part Number: 71-CRCW0603-261K-E3; Supplier 2: Digi-Key; Supplier 2 Part Number: 311-261KHRTR-ND; Supplier 3: thegioiic; Supplier 3 Part Number: N/A; Manufacturer Part Number: OEM; ComponentLink1Description: Datasheet; ComponentLink1URL: N/A; Mount: SMD/SMT; Operating Temperature Max: + 85 C; Operating Temperature Min: - 40 C; Package / Case: 0603; LCSC Part #: N/A
footprint RES_0603 (Chip Resistor, 2-Leads, Body 1.55x0.85mm, IPC Medium Density)
simulation model R_Resistor_Default (Model Description)
signal-integrity model Resistor Model
pins: 1, 2

## 00060335711
designator R?, comment 3.57 kOhm, 1/10 W
RES, size 0603, 3.57  kOhm, 1/10 W, 1%; Manufacturer: OEM; Rated Power: 1/10 W; Tolerance: +/-1%; Resistance: 3.57  kOhm; Supplier 1 URL: https://www.mouser.vn/ProductDetail/ROHM-Semiconductor/SDR03EZPF3571?qs=MyNHzdoqoQLQWlSf8qqG2w%3D%3D; Supplier 3 URL: N/A; Value: 3.57 kOhm; Supplier 2 URL: https://www.digikey.com/en/products/detail/yageo/RC0603FR-073K57L/727131; Packaging: Tape and Reel; Supplier 1: Mouser; Supplier 1 Part Number: 755-SDR03EZPF3571; Supplier 2: Digi-Key; Supplier 2 Part Number: 311-3.57KHRTR-ND; Supplier 3: thegioiic; Supplier 3 Part Number: N/A; Manufacturer Part Number: OEM; ComponentLink1Description: Datasheet; ComponentLink1URL: N/A; Mount: SMD/SMT; Operating Temperature Max: + 85 C; Operating Temperature Min: - 40 C; Package / Case: 0603; LCSC Part #: N/A
footprint RES_0603 (Chip Resistor, 2-Leads, Body 1.55x0.85mm, IPC Medium Density)
simulation model R_Resistor_Default (Model Description)
signal-integrity model Resistor Model
pins: 1, 2

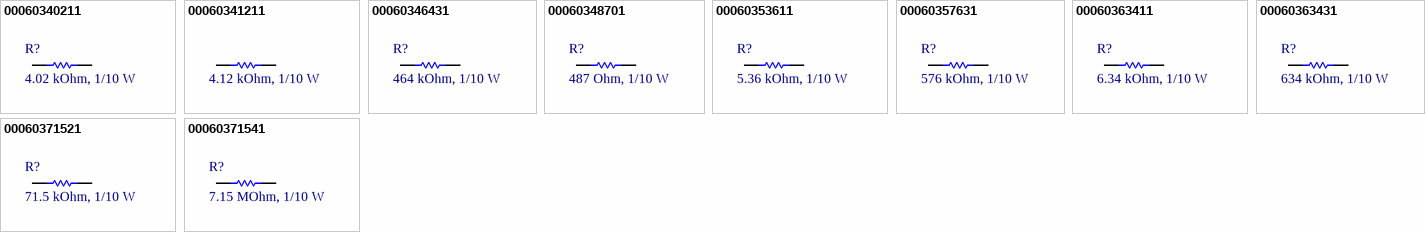
[diagram p6: symbols 00060340211 to 00060371541]